# EAGLE library part PN61729-S (library connectors-digital)
USB TYPE B, RECEPTACLE Connector Type: USB 2.0 B Gender: Receptacle No. of Contacts: 4 Contact Termination: Through Hole Right Angle Connector Mounting: PCB Contact Plating: Gold Contact Material: Copper / Zinc SVHC: No SVHC (18-Jun-2012) Connector Mounting Orientation: PCB Contact Material: CuZn Contact Resistance: 30mohm Current Rating: 1A Mounting Orientation: 90 Mounting Type: PC Board Operating Temperature Max: +80°C Operating Temperature Min: -40°C Proof Voltage: 500V Terminal Plating: Tin Termination Method: Through Hole Voltage Rating V AC: 30V
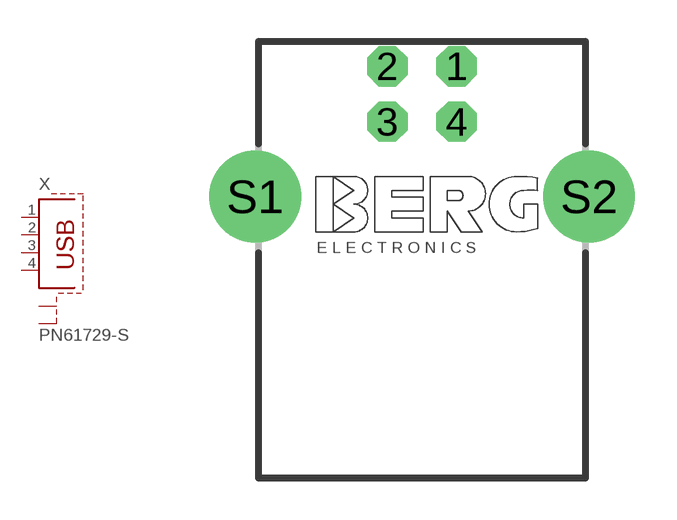
[diagram p0: symbol with the pads of PN61729-S; footprint PN61729-S]

Designator prefix X

## PN61729-S (MPN: 2411 03; OC_FARNELL: 1308876; SUPPLIER: LUMBERG)  [PN61729-S]
1  1  pas
2  2  pas
3  3  pas
4  4  pas
S1  S1  pas
S2  S2  pas

## Footprint PN61729-S (pad centres in mm)
USB connector with shield
drill 0.95 octagon: 1 1.25,4.71; 2 -1.25,4.71; 3 -1.25,2.71; 4 1.25,2.71
drill 2.3 pad 2.9: S1 -6.02,0; S2 6.02,0